# Altium footprint library tpi_carte_electronique_didactique_PittetL02.PcbLib: 18 footprints (part 1 of 2)
Each footprint in its own frame and in the unit in brackets; x right, y up, seen from the top. Pads: shape width x height; smd on the part's side, far side on the other; paste and mask are expansions set on the pad; w line width, h text height; cw(c..) or ccw(c..) is an arc to the next point about the centre after c.
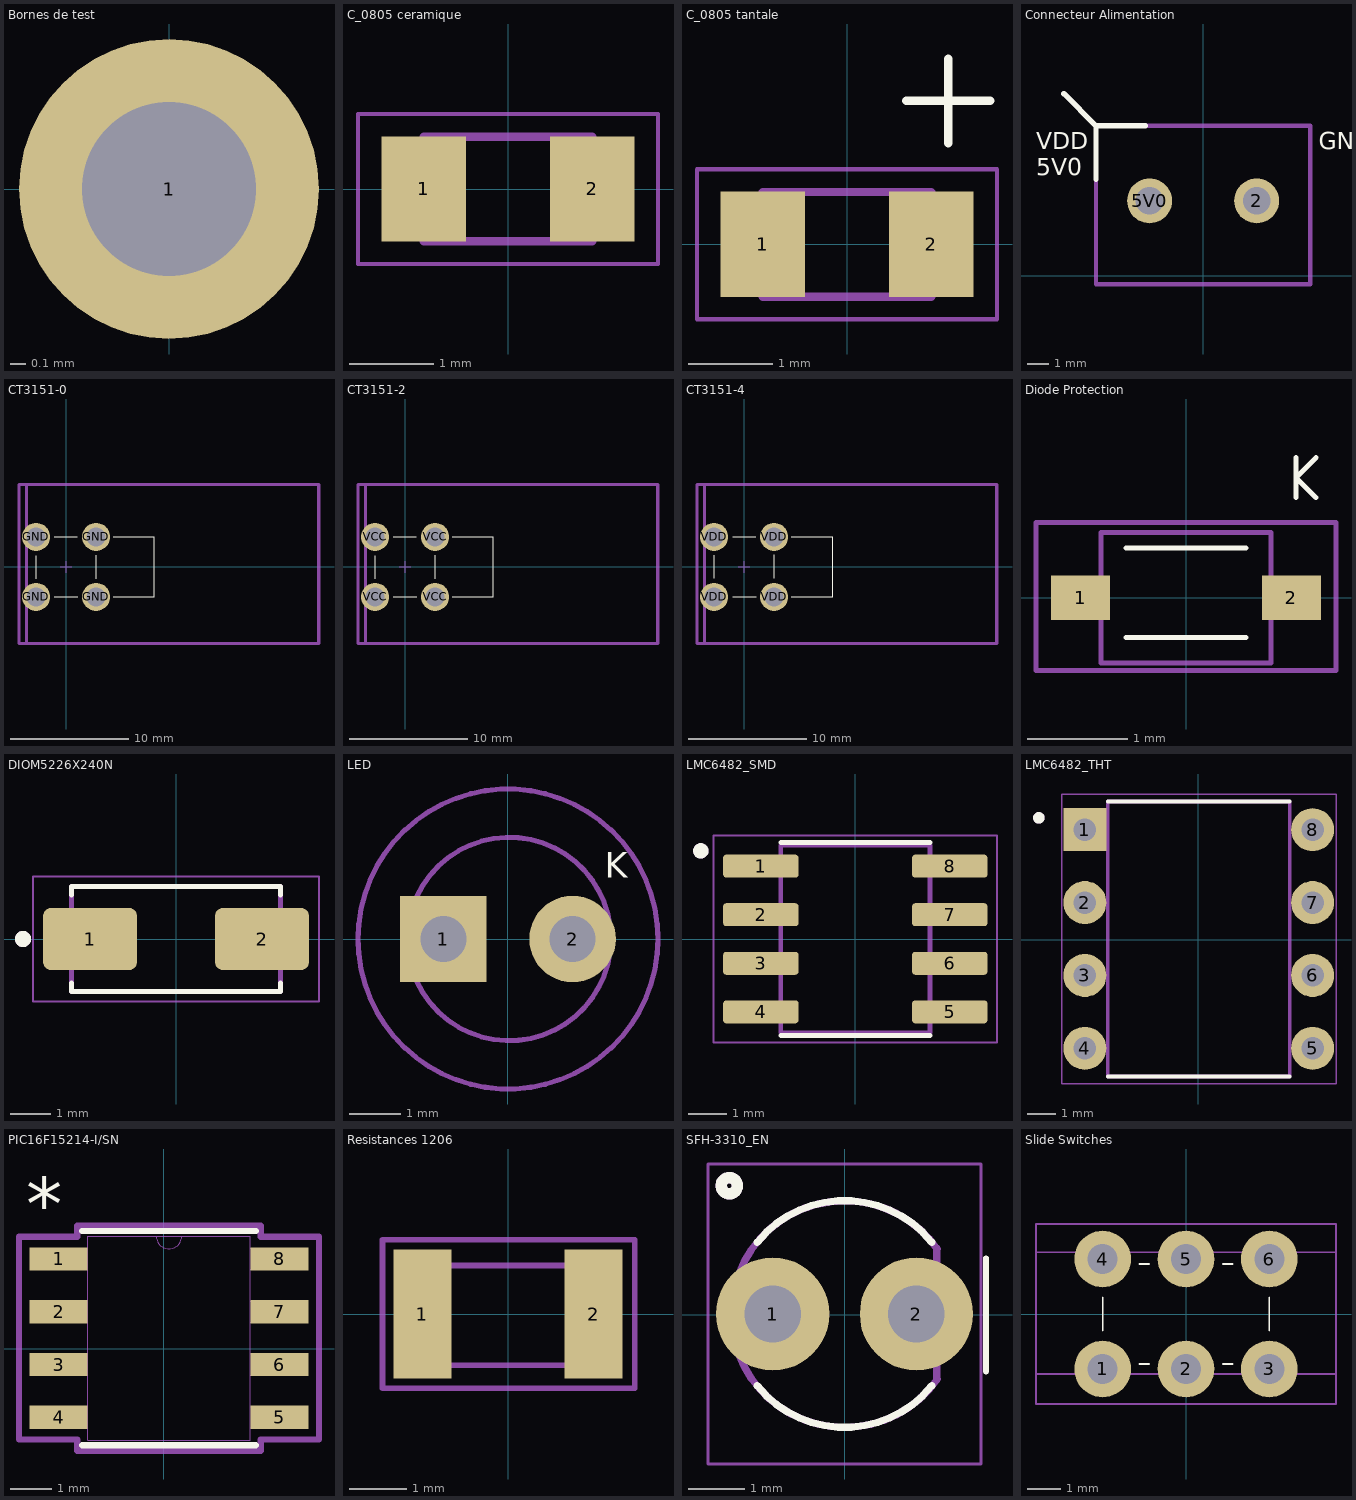
[diagram p0: the footprints below, top view; thin cyan lines are the x and y axes]

## Bornes de test [mm]
pads (1):
  round 1.9 hole 1.1: 1(0,0)
Top Assembly:
  text ".Designator" at -4.499,1.749 h1
3D body "19712-4001.SLDPRT": height 9.19, standoff -4.7, extent -1.97,-0.406 1.97,0.406

## C_0805 ceramique [mm] "Condensateur 0805"
pads (2):
  rect 1x1.25 smd: 1(-1,0) 2(1,0)
Top Assembly:
  lines w0.1: -1,-0.62 -1,0.62 1,0.62 1,-0.62 -1,-0.62
  text ".Designator" at -4.599,1.449 h1
Top Courtyard:
  lines w0.05: -1.778,-0.889 -1.778,0.889 1.778,0.889 1.778,-0.889 -1.778,-0.889
3D body "User Library-0805 SMD Capacitor-1.sldprt": height 0.78, standoff 0, extent -1.3,-0.625 1.3,0.625

## C_0805 tantale [mm] "Condensateur 0805"
pads (2):
  rect 1x1.25 smd: 1(-1,0) 2(1,0)
Top Overlay:
  lines w0.1: 0.7,1.7 1.7,1.7 ; 1.2,1.2 1.2,2.2
Top Assembly:
  lines w0.1: -1,-0.62 1,-0.62 1,0.62 -1,0.62 -1,-0.62
  text ".Designator" at -4.625,2.833 h1
Top Courtyard:
  lines w0.05: -1.778,-0.889 1.778,-0.889 1.778,0.889 -1.778,0.889 -1.778,-0.889
3D body "User Library-0805 SMD Capacitor-1.sldprt": height 0.78, standoff 0, extent -1.3,-0.625 1.3,0.625

## Connecteur Alimentation [mm]
pads (2):
  round 2.1 hole 1.3: 2(2.5,3.5) 5V0(-2.5,3.5)
Top Overlay:
  lines w0.25: -6.5,8.5 -5,7 ; -5,4.5 -5,7 ; -2.7,7 -5,7
  text "GND" at 5.4,5.9 h0.8
  text "VDD / 5V0" at -7.8,4.7 h0.8
Top Assembly:
  lines w0.2: -5,-0.4 -5,7 5,7 5,-0.4 -5,-0.4
  text ".Designator" at -5.2,7.833 h1
3D body "691137710002.step": height 11.5, standoff -3.6, extent -5,-0.45 5,7.05

## CT3151-0 [mm] "Connecteur banane GND"
pads (4):
  round 2.4 hole 1.6: GND(-2.55,-2.55) GND(-2.55,2.55) GND(2.55,-2.55) GND(2.55,2.55)
Top Overlay:
  lines w0.1: -2.55,-1 -2.55,0.95 ; -1,-2.55 1,-2.55 ; -1,2.55 0.95,2.55 ; 2.55,-1 2.55,1 ; 4,-2.55 7.5,-2.55 7.5,2.55 4,2.55
Body Center:
  lines w0.1: -0.5,0 0.5,0 ; 0,-0.5 0,0.5
Top Assembly:
  lines w0.254: -3.35,-6.5 21.45,-6.5 21.45,7 -3.35,7 -3.35,-6.5
  text ".Designator" at -3.624,8.624 h1
Top Courtyard:
  lines w0.254: -4,-6.5 21.5,-6.5 21.5,7 -4,7 -4,-6.5
3D body "CT3151-0.STEP": height 19.25, standoff -3.15, extent -2.975,-6.45 24.725,7.05

## CT3151-2 [mm]
pads (4):
  round 2.4 hole 1.6: VCC(-2.55,-2.55) VCC(-2.55,2.55) VCC(2.55,-2.55) VCC(2.55,2.55)
Top Overlay:
  lines w0.1: -2.55,-1 -2.55,0.95 ; -1,-2.55 1,-2.55 ; -1,2.55 0.95,2.55 ; 2.55,-1 2.55,1 ; 4,-2.55 7.5,-2.55 7.5,2.55 4,2.55
Body Center:
  lines w0.1: -0.5,0 0.5,0 ; 0,-0.5 0,0.5
Top Assembly:
  lines w0.254: -3.35,-6.5 21.45,-6.5 21.45,7 -3.35,7 -3.35,-6.5
  text ".Designator" at -3.599,8.099 h1
Top Courtyard:
  lines w0.254: -4,-6.5 21.5,-6.5 21.5,7 -4,7 -4,-6.5
3D body "CT3151-2.STEP": height 19.25, standoff -3.15, extent -3,-6.5 24.7,7

## CT3151-4 [mm] "Connecteur banane VDD"
pads (4):
  round 2.4 hole 1.6: VDD(-2.575,-2.575) VDD(-2.575,2.525) VDD(2.525,-2.575) VDD(2.525,2.525)
Top Overlay:
  lines w0.1: -2.55,-1 -2.55,0.95 ; -1,-2.55 1,-2.55 ; -1,2.55 0.95,2.55 ; 2.55,-1 2.55,1 ; 4,-2.55 7.5,-2.55 7.5,2.55 4,2.55
Body Center:
  lines w0.1: -0.525,-0.025 0.475,-0.025 ; -0.025,-0.525 -0.025,0.475
Top Assembly:
  lines w0.254: -3.375,-6.525 21.425,-6.525 21.425,6.975 -3.375,6.975 -3.375,-6.525
  text ".Designator" at -3.999,8.574 h1
Top Courtyard:
  lines w0.254: -4.025,-6.525 21.475,-6.525 21.475,6.975 -4.025,6.975 -4.025,-6.525
3D body "CT3151-2.STEP": height 19.25, standoff -3.15, extent -3.025,-6.525 24.675,6.975

## Diode Protection [mm]
pads (2):
  rect 0.59x0.45 smd: 1(-1.055,0) 2(1.055,0)
Top Overlay:
  lines w0.05: -0.6,-0.4 0.6,-0.4 ; -0.6,0.5 0.6,0.5 ; 1.1,1 1.1,1.4 ; 1.3,1 1.1,1.2 1.3,1.4
Top Assembly:
  lines w0.05: -0.85,-0.65 -0.85,0.65 0.85,0.65 0.85,-0.65 -0.85,-0.65
  text ".Designator" at -3.8,2 h1
Top Courtyard:
  lines w0.05: -1.5,-0.725 1.5,-0.725 1.5,0.75 -1.5,0.75 -1.5,-0.725

## DIOM5226X240N [mm]
height 2.4
pads (2):
  rrect25% 2.33x1.55 smd: 1(-2.135,0) 2(2.135,0)
Top Overlay:
  circle w0.2: c-3.8,0 r0.1
  lines w0.127: -2.598,-1.095 -2.598,-1.302 2.598,-1.302 2.598,-1.095 ; -2.598,1.095 -2.598,1.302 2.598,1.302 2.598,1.095
Top Assembly:
  circle w0.2: c-3.8,0 r0.1
  lines w0.127: -2.598,-1.302 2.598,-1.302 2.598,1.302 -2.598,1.302 -2.598,-1.302
  text ".Designator" at -4.684,2.095 h1
Top Courtyard:
  lines w0.05: -3.55,-1.552 -3.55,1.552 3.55,1.552 3.55,-1.552 -3.55,-1.552
3D body "SMAZ5V6-13-F.step": height 2.4, standoff 0, extent -2.572,-1.302 2.623,1.302

## LED [mm] "THT"
height 2.54
pads (2):
  rect 1.7x1.7 hole 0.9: 1(-1.27,0)
  round 1.7 hole 0.9: 2(1.27,0)
Top Overlay:
  text "K" at 1.9,1.2 h0.5
Top Assembly:
  circle w0.1: c0.025,0 r2
  text ".Designator" at -4.684,4.095 h1
Top Courtyard:
  circle w0.1: c0,0 r2.95
3D body "WP7113ID.step": height 9.6, standoff -26, extent -2.95,-2.95 2.5,2.95

## LMC6482_SMD [mm]
pads (8):
  rrect25% 1.97x0.6 smd: 1(-2.47,1.905) 2(-2.47,0.635) 3(-2.47,-0.635) 4(-2.47,-1.905) 5(2.47,-1.905) 6(2.47,-0.635) 7(2.47,0.635) 8(2.47,1.905)
Top Overlay:
  circle w0.2: c-4.04,2.305 r0.1
  lines w0.127: -1.95,-2.525 1.95,-2.525 ; -1.95,2.525 1.95,2.525
Top Assembly:
  circle w0.2: c-4.04,2.305 r0.1
  lines w0.127: -1.95,-2.452 1.95,-2.452 1.95,2.452 -1.95,2.452 -1.95,-2.452
  text ".Designator" at -4.684,3.595 h1
Top Courtyard:
  lines w0.05: -3.705,-2.702 3.705,-2.702 3.705,2.702 -3.705,2.702 -3.705,-2.702
3D body "LMC6482IMX_NOPB.step": height 1.75, standoff 0, extent -3.05,-2.475 2.95,2.425

## LMC6482_THT [mm]
pads (8):
  rect 1.5x1.5 hole 0.78: 1(-3.945,3.835)
  round 1.5 hole 0.78: 2(-3.945,1.295) 3(-3.945,-1.245) 4(-3.945,-3.785) 5(3.995,-3.785) 6(3.995,-1.245) 7(3.995,1.295) 8(3.995,3.835)
Top Overlay:
  circle w0.2: c-5.55,4.25 r0.1
  lines w0.127: -3.15,-4.77 3.2,-4.77 ; -3.15,4.82 3.2,4.82
Top Assembly:
  circle w0.2: c-5.55,4.25 r0.1
  lines w0.127: -3.15,-4.77 -3.15,4.82 3.2,4.82 3.2,-4.77 -3.15,-4.77
  text ".Designator" at -4.684,5.595 h1
Top Courtyard:
  lines w0.05: -4.76,-5.02 -4.76,5.07 4.81,5.07 4.81,-5.02 -4.76,-5.02
3D body "step_temp.STEP": height 5.08, standoff -3.17, extent -5.436,-4.769 5.486,4.819

## PIC16F15214-I/SN [mil]
pads (8):
  rect 55x22 smd paste+0 mask+0: 1(-99.5,85) 2(-99.5,35) 3(-99.5,-15) 4(-99.5,-65) 5(109.5,-65) 6(109.5,-15) 7(109.5,35) 8(109.5,85)
Top Overlay:
  lines w6: -77,-91.5 87,-91.5 ; -77,111.5 87,111.5
  text "*" at -129.92,112.2 h50
Top Assembly:
  lines w0: -7,106.5 ccw(c5,106.5) 17,106.5
  lines w1: -113,-75 -72,-75 -72,-55 -113,-55 -113,-75 ; -113,-25 -72,-25 -72,-5 -113,-5 -113,-25 ; -113,25 -72,25 -72,45 -113,45 -113,25 ; -113,75 -72,75 -72,95 -113,95 -113,75 ; -72,-86.5 -72,106.5 82,106.5 82,-86.5 -72,-86.5 ; 82,-75 123,-75 123,-55 82,-55 82,-75 ; 82,-25 123,-25 123,-5 82,-5 82,-25 ; 82,25 123,25 123,45 82,45 82,25 ; 82,75 123,75 123,95 82,95 82,75
  text ".Designator" at -184.4,161.23 h39.37
Top Courtyard:
  lines w6: -137,-86 -82,-86 -82,-96.5 92,-96.5 92,-86 147,-86 147,106 92,106 92,116.5 -82,116.5 -82,106 -137,106 -137,-86
3D body "SOIC8_SN_MCH.step": height 69.09, standoff 0, extent -112.99,-86.5 122.99,106.5

## Resistances 1206 [mil] "Chip Resistor, 1206"
height 23.62
pads (2):
  rect 40x89 smd: 1(-59.06,0) 2(59.06,0)
Top Assembly:
  lines w3.94: -67.91,-35.43 65.94,-35.43 65.94,33.46 -67.91,33.46 -67.91,-35.43
  text ".Designator" at -199.4,81.23 h39.37
Top Courtyard:
  lines w3.94: -86.61,-51.18 87.6,-51.18 87.6,51.18 -86.61,51.18 -86.61,-51.18
3D body "STA_RMCF1206_STP.step": height 27.99, standoff 0, extent -67.99,-34.49 67.99,34.49

## SFH-3310_EN [mm] "Photo-transistor NPN"
pads (2):
  round 2 hole 1 mask+0: 1(-1.27,0.016) 2(1.27,0.016)
Top Overlay:
  circle w0.2: c-2.036,2.282 r0.143
  lines w0.1: 2.5,-1 2.5,1
  lines w0.127: -1.545,-1.251 ccw(c0,0) 1.545,-1.251 ; -1.545,1.283 cw(c0,0.032) 1.545,1.283
Top Solder:
  circle w1: c-1.27,0.016 r0.5
  circle w1: c1.27,0.016 r0.5
Top Assembly:
  circle w0.2: c-2.036,2.282 r0.143
  lines w0.127: 1.63,-1.144 1.63,1.176 ; 1.64,-1.134 cw(c0.001,0.014) 1.64,1.162
  text ".Designator" at -4.725,3.708 h1
Top Courtyard:
  lines w0.05: -2.413,-2.634 -2.413,2.666 2.413,2.666 2.413,-2.634 -2.413,-2.634
3D body "step_temp.STEP": height 2.8, standoff -24.5, extent -1.9,-1.882 1.645,1.914

## Slide Switches [mm] "Sub-Miniature Slide Switches"
pads (6):
  round 1.7 hole 0.9: 1(-2.5,-1.65) 2(0,-1.65) 3(2.5,-1.65) 4(-2.5,1.65) 5(0,1.65) 6(2.5,1.65)
Top Overlay:
  lines w0.05: -2.5,-0.5 -2.5,0.5 ; -1.4,-1.5 -1.1,-1.5 ; -1.4,1.5 -1.1,1.5 ; 1.1,-1.5 1.4,-1.5 ; 1.1,1.5 1.4,1.5 ; 2.5,-0.5 2.5,0.5
Top Assembly:
  lines w0.05: -4.5,-1.8 4.5,-1.8 4.5,1.85 -4.5,1.85 -4.5,-1.8
  text ".Designator" at -4.939,-5.863 h1
Top Courtyard:
  lines w0.05: -4.5,-2.7 -4.5,2.7 4.5,2.7 4.5,-2.7 -2.6,-2.7 -4.5,-2.7
3D body "JS202011CQN.STEP": height 5.5, standoff -3, extent -4.525,-1.775 4.475,1.825